# EAGLE library part ST7540 (library candrian)
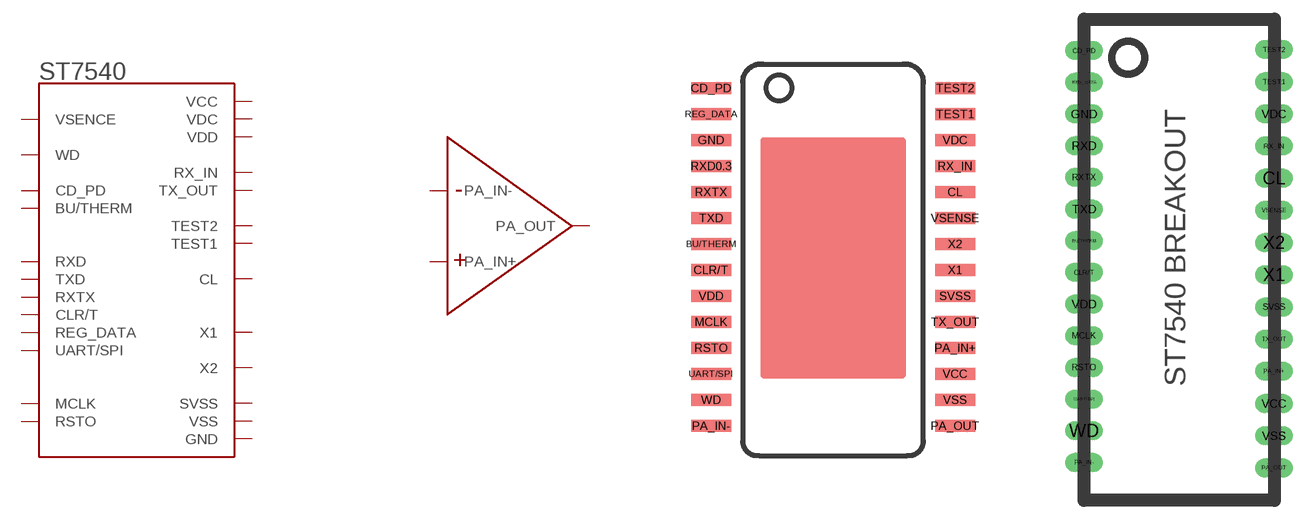
[diagram p10: symbol with the pads of ST7540; footprints ST7540, ST7540-BREAKOUT]

Designator prefix IC; gates G$1=ST7540 G$2=ST7540-PA

## ST7540HTSSOP28  [ST7540]
BU/THERM  G$1:BU/THERM
CD_PD  G$1:CD_PD
CL  G$1:CL
CLR/T  G$1:CLR/T
GND  G$1:GND
MCLK  G$1:MCLK
PA_IN+  G$2:PA_IN+
PA_IN-  G$2:PA_IN-
PA_OUT  G$2:PA_OUT
REG_DATA  G$1:REG_DATA
RSTO  G$1:RSTO
RX_IN  G$1:RX_IN
RXD0.3  G$1:RXD
RXTX  G$1:RXTX
SVSS  G$1:SVSS
TEST1  G$1:TEST1
TEST2  G$1:TEST2
TX_OUT  G$1:TX_OUT
TXD  G$1:TXD
UART/SPI  G$1:UART/SPI
VCC  G$1:VCC
VDC  G$1:VDC
VDD  G$1:VDD
VSENSE  G$1:VSENCE
VSS  G$1:VSS
WD  G$1:WD
X1  G$1:X1
X2  G$1:X2

## ST7540BREAKOUT  [ST7540-BREAKOUT]
BU/THERM  G$1:BU/THERM
CD_PD  G$1:CD_PD
CL  G$1:CL
CLR/T  G$1:CLR/T
GND  G$1:GND
MCLK  G$1:MCLK
PA_IN+  G$2:PA_IN+
PA_IN-  G$2:PA_IN-
PA_OUT  G$2:PA_OUT
REG_DATA  G$1:REG_DATA
RSTO  G$1:RSTO
RX_IN  G$1:RX_IN
RXD  G$1:RXD
RXTX  G$1:RXTX
SVSS  G$1:SVSS
TEST1  G$1:TEST1
TEST2  G$1:TEST2
TX_OUT  G$1:TX_OUT
TXD  G$1:TXD
UART/SPI  G$1:UART/SPI
VCC  G$1:VCC
VDC  G$1:VDC
VDD  G$1:VDD
VSENSE  G$1:VSENCE
VSS  G$1:VSS
WD  G$1:WD
X1  G$1:X1
X2  G$1:X2

## Footprint ST7540 (pad centres in mm)
smd 1 x 0.305: BU/THERM 0.2,5.3; CD_PD 0.2,9.2; CL 6.3,6.6; CLR/T 0.2,4.65; GND 0.2,7.9; MCLK 0.2,3.35; PA_IN+ 6.3,2.7; PA_IN- 0.2,0.75; PA_OUT 6.3,0.75; REG_DATA 0.2,8.55; RSTO 0.2,2.7; RX_IN 6.3,7.25; RXD0.3 0.2,7.25; RXTX 0.2,6.6; SVSS 6.3,4; TEST1 6.3,8.55; TEST2 6.3,9.2; TX_OUT 6.3,3.35; TXD 0.2,5.95; UART/SPI 0.2,2.05; VCC 6.3,2.05; VDC 6.3,7.9; VDD 0.2,4; VSENSE 6.3,5.95; VSS 6.3,1.4; WD 0.2,1.4; X1 6.3,4.65; X2 6.3,5.3

## Footprint ST7540-BREAKOUT (pad centres in mm)
drill 1 long: BU/THERM 1,20.5; CD_PD 1,35.5; CL 15.97,25.43; CLR/T 1,18; GND 1,30.5; MCLK 1,13; PA_IN+ 15.97,10.19; PA_IN- 1,3; PA_OUT 15.97,2.57; REG_DATA 1,33; RSTO 1,10.5; RX_IN 15.97,27.97; RXD 1,28; RXTX 1,25.5; SVSS 15.97,15.27; TEST1 15.97,33.05; TEST2 15.97,35.59; TX_OUT 15.97,12.73; TXD 1,23; UART/SPI 1,8; VCC 15.97,7.65; VDC 15.97,30.51; VDD 1,15.5; VSENSE 15.97,22.89; VSS 15.97,5.11; WD 1,5.5; X1 15.97,17.81; X2 15.97,20.35